# Altium footprint library TMDX654GPEVM_BRD.PcbLib: 153 footprints (part 11 of 12)
Each footprint in its own frame and in the unit in brackets; x right, y up, seen from the top. Pads: shape width x height; smd on the part's side, far side on the other; paste and mask are expansions set on the pad; w line width, h text height; cw(c..) or ccw(c..) is an arc to the next point about the centre after c.
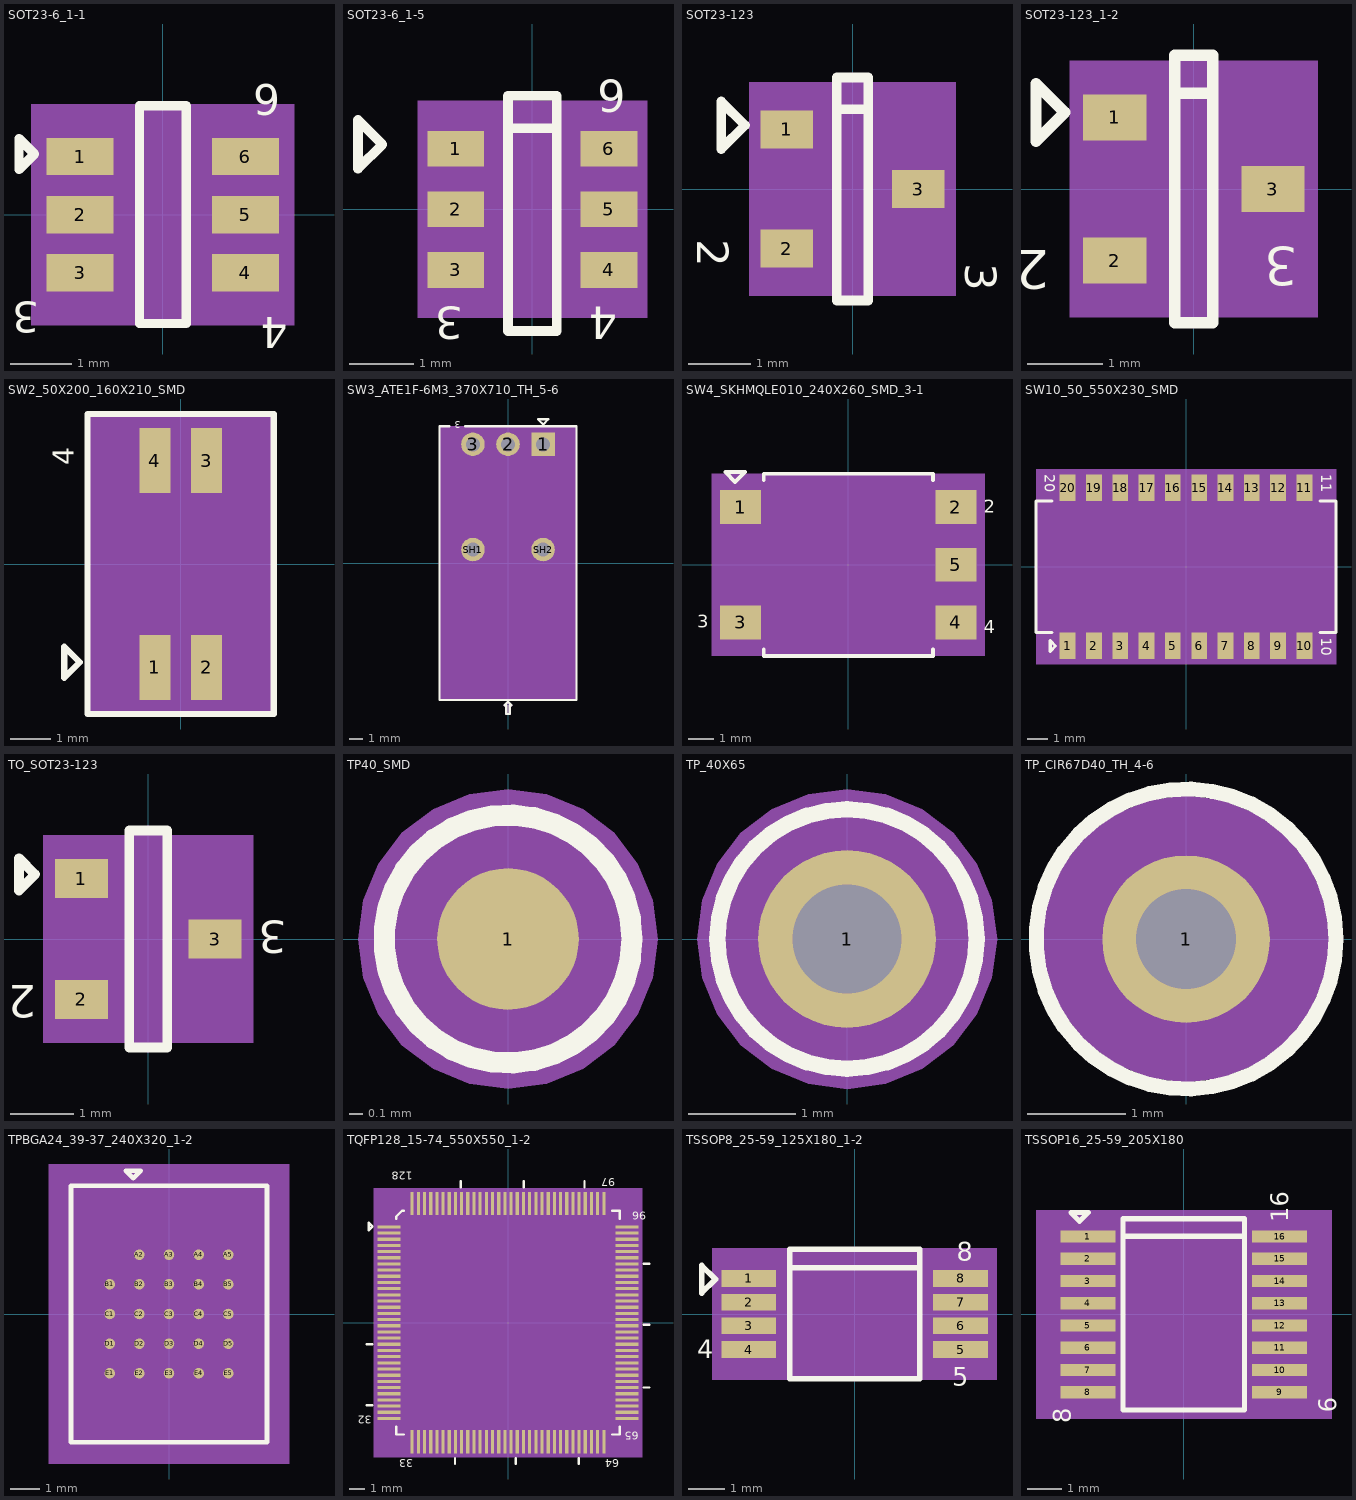
[diagram p10: the footprints below, top view; thin cyan lines are the x and y axes]

## SOT23-6_1-1 [mil] "SOT23-6_1-1"
pads (6):
  rect 43x24 smd: 1(-53.15,37.4) 2(-53.15,0) 3(-53.15,-37.4) 4(53.15,-37.4) 5(53.15,0) 6(53.15,37.4)
Top Overlay:
  lines w6: -92.5,29.05 -92.5,49.05 -82.5,39.05 -92.5,29.05 ; -15,-70 -15,70 15,70 15,-70 -15,-70
  text ".Designator" at -81.5,-15.95 h30
  text "3" at -79.5,-55.95 h20
  text "4" at 80.5,-65.95 h20
  text "6" at 75.5,84.05 h20
Top Courtyard:
  dashed: -81.65,-67 -81.65,67 81.65,67 81.65,-67
Top 3D Body:
  region: -84.5,-71 -84.5,71 84.5,71 84.5,-71
Mechanical 10:
  lines w3.94: -30,55 -27.56,57.48
  lines w6: -30,20 7.87,57.48 ; -30,25 0,57.48 ; -30,30 -3.94,57.48 ; -30,35 -5,60 ; -30,45 -19.68,57.48 ; -30,50 -23.62,57.48 ; -15,60 -30,40 -10,60 ; -45,25 -45,45 -35,35 -45,25 ; -30,-60 -30,60 30,60 30,-60 -30,-60
  text "U35" at -36.5,4.05 h30
Mechanical 11:
  lines w3.94: -30,55 -27.56,57.48
  lines w6: -30,20 7.87,57.48 ; -30,25 0,57.48 ; -30,30 -3.94,57.48 ; -30,35 -5,60 ; -30,45 -19.68,57.48 ; -30,50 -23.62,57.48 ; -15,60 -30,40 -10,60 ; -45,25 -45,45 -35,35 -45,25 ; -30,-60 -30,60 30,60 30,-60 -30,-60
  text "U35" at -36.5,4.05 h30
Mechanical 12:
  lines w3.94: -30,55 -27.56,57.48
  lines w6: -30,20 7.87,57.48 ; -30,25 0,57.48 ; -30,30 -3.94,57.48 ; -30,35 -5,60 ; -30,45 -19.68,57.48 ; -30,50 -23.62,57.48 ; -15,60 -30,40 -10,60 ; -45,25 -45,45 -35,35 -45,25 ; -30,-60 -30,60 30,60 30,-60 -30,-60
  text "U35" at -36.5,4.05 h30
Mechanical 13:
  lines w3.94: -30,55 -27.56,57.48
  lines w6: -30,20 7.87,57.48 ; -30,25 0,57.48 ; -30,30 -3.94,57.48 ; -30,35 -5,60 ; -30,45 -19.68,57.48 ; -30,50 -23.62,57.48 ; -15,60 -30,40 -10,60 ; -45,25 -45,45 -35,35 -45,25 ; -30,-60 -30,60 30,60 30,-60 -30,-60
  text "U35" at -36.5,4.05 h30
Mechanical 14:
  lines w3.94: -30,55 -27.56,57.48
  lines w6: -30,20 7.87,57.48 ; -30,25 0,57.48 ; -30,30 -3.94,57.48 ; -30,35 -5,60 ; -30,45 -19.68,57.48 ; -30,50 -23.62,57.48 ; -15,60 -30,40 -10,60 ; -45,25 -45,45 -35,35 -45,25 ; -30,-60 -30,60 30,60 30,-60 -30,-60
  text "U35" at -36.5,4.05 h30
Mechanical47:
  text "1" at -49.15,37.4 h10
  text "3" at -49.15,-37.4 h10
  text "6" at 57.15,37.4 h10
  text "4" at 57.15,-37.4 h10
  text "2" at -49.15,0 h10
  text "5" at 57.15,0 h10
Top Assembly:
  lines w3.94: -30,55 -27.56,57.48
  lines w6: -30,20 7.87,57.48 ; -30,25 0,57.48 ; -30,30 -3.94,57.48 ; -30,35 -5,60 ; -30,45 -19.68,57.48 ; -30,50 -23.62,57.48 ; -15,60 -30,40 -10,60 ; -45,25 -45,45 -35,35 -45,25 ; -30,-60 -30,60 30,60 30,-60 -30,-60
Top Component Outline:
  circle w1.97: c0,0 r13.78
  lines w0.04: -32.87,-58.86 -32.87,58.86 32.87,58.86 32.87,-58.86 -32.87,-58.86
  lines w1.97: -19.68,0 19.68,0 ; 0,-19.68 0,19.68
3D body: height 150, standoff 0, extent -84.5,-71 84.5,71

## SOT23-6_1-5 [mil] "SOT23-6_1-5"
pads (6):
  rect 35x22 smd: 1(-47.24,37.4) 2(-47.24,0) 3(-47.24,-37.4) 4(47.24,-37.4) 5(47.24,0) 6(47.24,37.4)
Top Overlay:
  lines w6: -15,50 15,50 -15,50 ; -15,50 -15,-75 15,-75 15,70 -15,70 -15,50 ; -107.52,25 -92.52,40 -107.52,55 -107.52,30 -107.52,25
  text "3" at -42.52,-60 h20
  text ".Designator" at 18.98,-90 h30
  text "4" at 52.48,-60 h20
  text "6" at 57.48,80 h20
Top Courtyard:
  dashed: -70.74,-67 -70.74,67 70.74,67 70.74,-67
Top 3D Body:
  region: -69,-65 -69,65 69,65 69,-65
Mechanical 15:
  lines w6: -35,40 -35,-60 35,-60 35,60 -35,60 -35,40 ; -35,40 35,40 -35,40 ; -52.5,25 -37.5,40 -52.5,55 -52.5,30 -52.5,25
  text "U89" at 33.98,-75 h30
Mechanical 16:
  lines w6: -35,40 -35,-60 35,-60 35,60 -35,60 -35,40 ; -35,40 35,40 -35,40 ; -52.5,25 -37.5,40 -52.5,55 -52.5,30 -52.5,25
  text "U89" at 33.98,-75 h30
Mechanical 17:
  lines w6: -35,40 -35,-60 35,-60 35,60 -35,60 -35,40 ; -35,40 35,40 -35,40 ; -52.5,25 -37.5,40 -52.5,55 -52.5,30 -52.5,25
  text "U89" at 33.98,-75 h30
Mechanical 18:
  lines w6: -35,40 -35,-60 35,-60 35,60 -35,60 -35,40 ; -35,40 35,40 -35,40 ; -52.5,25 -37.5,40 -52.5,55 -52.5,30 -52.5,25
  text "U89" at 33.98,-75 h30
Mechanical 19:
  lines w6: -35,40 -35,-60 35,-60 35,60 -35,60 -35,40 ; -35,40 35,40 -35,40 ; -52.5,25 -37.5,40 -52.5,55 -52.5,30 -52.5,25
  text "U89" at 33.98,-75 h30
Mechanical47:
  text "4" at 43.24,-37.4 h10
  text "6" at 43.24,37.4 h10
  text "2" at -51.24,0 h10
  text "1" at -51.24,37.4 h10
  text "5" at 43.24,0 h10
  text "3" at -51.24,-37.4 h10
Top Assembly:
  lines w6: -35,40 35,40 -35,40 ; -35,40 -35,60 35,60 35,-60 -35,-60 -35,40 ; -52.5,25 -37.5,40 -52.5,55 -52.5,30 -52.5,25
3D body: height 150, standoff 0, extent -69,-65 69,65

## SOT23-123 [mil] "SOT23-123"
pads (3):
  rect 33x24 smd: 1(-41.34,37.4) 2(-41.34,-37.4) 3(41.34,0)
Top Overlay:
  lines w6: -10,50 10,50 -10,50 ; -10,50 -10,-70 10,-70 10,70 -10,70 -10,50 ; -82.5,25 -82.5,55 -67.5,40 -82.5,25
  text ".Designator" at 92.37,29.8 h30
  text "2" at -97.63,-31.7 h20
  text "3" at 70.7,-46.7 h20
Top Courtyard:
  dashed: -64.84,-67 -64.84,67 64.84,67 64.84,-67
Top 3D Body:
  region: -63,-65 -63,65 63,65 63,-65
Mechanical 15:
  lines w6: -30,40 -45,55 -45,25 -30,40 ; -30,40 -30,60 30,60 30,-60 -30,-60 -30,40 ; -30,40 30,40 -30,40
  text "Q10" at 42.37,29.8 h30
Mechanical 16:
  lines w6: -30,40 -45,55 -45,25 -30,40 ; -30,40 -30,60 30,60 30,-60 -30,-60 -30,40 ; -30,40 30,40 -30,40
  text "Q10" at 42.37,29.8 h30
Mechanical 17:
  lines w6: -30,40 -45,55 -45,25 -30,40 ; -30,40 -30,60 30,60 30,-60 -30,-60 -30,40 ; -30,40 30,40 -30,40
  text "Q10" at 42.37,29.8 h30
Mechanical 18:
  lines w6: -30,40 -45,55 -45,25 -30,40 ; -30,40 -30,60 30,60 30,-60 -30,-60 -30,40 ; -30,40 30,40 -30,40
  text "Q10" at 42.37,29.8 h30
Mechanical 19:
  lines w6: -30,40 -45,55 -45,25 -30,40 ; -30,40 -30,60 30,60 30,-60 -30,-60 -30,40 ; -30,40 30,40 -30,40
  text "Q10" at 42.37,29.8 h30
Mechanical47:
  text "3" at 41.34,-4 h10
  text "1" at -41.34,33.4 h10
  text "2" at -41.34,-41.4 h10
Top Assembly:
  lines w6: -30,40 30,40 -30,40 ; -30,40 -30,-60 30,-60 30,60 -30,60 -30,40 ; -30,40 -45,55 -45,25 -30,40
3D body: height 150, standoff 0, extent -63,-65 63,65

## SOT23-123_1-2 [mil] "SOT23-123_1-2"
pads (3):
  rect 33x24 smd: 1(-41.34,37.4) 2(-41.34,-37.4) 3(41.34,0)
Top Overlay:
  lines w6: -10,50 10,50 -10,50 ; -10,50 -10,-70 10,-70 10,70 -10,70 -10,50 ; -82.5,25 -82.5,55 -67.5,40 -82.5,25
  text ".Designator" at -11.19,-96.95 h30
  text "2" at -75.69,-31.95 h20
  text "3" at 54.31,-30.28 h20
Top Courtyard:
  dashed: -64.84,-67 -64.84,67 64.84,67 64.84,-67
Top 3D Body:
  region: -63,-65 -63,65 63,65 63,-65
Mechanical 10:
  lines w6: -30,40 -45,55 -45,25 -30,40 ; -30,40 -30,60 30,60 30,-60 -30,-60 -30,40 ; -30,40 30,40 -30,40
  text "D4" at 23.81,-71.95 h30
Mechanical 11:
  lines w6: -30,40 -45,55 -45,25 -30,40 ; -30,40 -30,60 30,60 30,-60 -30,-60 -30,40 ; -30,40 30,40 -30,40
  text "D4" at 23.81,-71.95 h30
Mechanical 12:
  lines w6: -30,40 -45,55 -45,25 -30,40 ; -30,40 -30,60 30,60 30,-60 -30,-60 -30,40 ; -30,40 30,40 -30,40
  text "D4" at 23.81,-71.95 h30
Mechanical 13:
  lines w6: -30,40 -45,55 -45,25 -30,40 ; -30,40 -30,60 30,60 30,-60 -30,-60 -30,40 ; -30,40 30,40 -30,40
  text "D4" at 23.81,-71.95 h30
Mechanical 14:
  lines w6: -30,40 -45,55 -45,25 -30,40 ; -30,40 -30,60 30,60 30,-60 -30,-60 -30,40 ; -30,40 30,40 -30,40
  text "D4" at 23.81,-71.95 h30
Mechanical47:
  text "3" at 45.34,0 h10
  text "1" at -37.34,37.4 h10
  text "2" at -37.34,-37.4 h10
Top Assembly:
  lines w6: -30,40 30,40 -30,40 ; -30,40 -30,-60 30,-60 30,60 -30,60 -30,40 ; -30,40 -45,55 -45,25 -30,40
3D body: height 150, standoff 0, extent -63,-65 63,65

## SW2_50X200_160X210_SMD [mil] "SW2_50X200_160X210_SMD"
pads (4):
  rect 30x63 smd: 1(-25,-100) 2(25,-100) 3(25,100) 4(-25,100)
Top Overlay:
  lines w6: -112.5,-110 -112.5,-80 -97.5,-95 -112.5,-110 ; -90,-145 90,-145 90,145 -90,145 -90,-145
  text "4" at -103.48,95.5 h20
  text ".Designator" at -103.48,-11 h30
Top Courtyard:
  dashed: -87,-138.5 -87,138.5 87,138.5 87,-138.5
Top 3D Body:
  region: 90,-145 90,145 -90,145 -90,-145
Mechanical 10:
  lines w6: -45,-50 -45,50 ; -45,-50 -45,-45 -40,-20 ; -45,-50 -5,-50 ; -45,50 -40,25 ; -45,50 -5,50 ; -40,-105 -80,-105 -80,105 -25,105 ; -40,-105 -25,-90 ; -40,-105 -25,-90 ; -40,-105 -25,-105 ; -40,-20 -40,25 ; -40,-20 -25,-20 ; -40,-20 -25,-20 ; -40,25 -25,25 ; -40,25 -25,25 ; -25,-105 -35,-105 -35,-115 -15,-115 -15,-105 -10,-105 ; -25,-105 -10,-105 ; -25,-105 25,-105 ; -25,-90 -10,-105 ; -25,-90 -10,-105 ; -25,-20 -10,-20 ; -25,-20 -10,-20 ; -25,25 -10,25 ; -25,25 -10,25 ; -25,105 25,105 ; -25,105 -15,105 -15,115 -35,115 -35,105 -25,105 ; -10,-20 -5,-50 ; -10,-20 -10,25 ; -10,25 -5,45 -5,50 ; -5,-50 -5,50 ; -5,-50 -5,50 ; 5,-50 5,50 ; 5,-50 5,-45 10,-20 ; 5,-50 45,-50 ; 5,50 10,25 ; 5,50 45,50 ; 10,-20 10,25 ; 10,-20 25,-20 ; 10,-20 25,-20 ; 10,25 25,25 ; 10,25 25,25 ; 25,-105 15,-105 15,-115 35,-115 35,-105 25,-105 ; 25,-105 80,-105 80,105 25,105 ; 25,-20 40,-20 ; 25,-20 40,-20 ; 25,25 40,25 ; 25,25 40,25 ; 25,105 35,105 35,115 15,115 15,105 25,105 ; 40,-20 45,-50 ; 40,-20 40,25 ; 40,25 45,45 45,50 ; 45,-50 45,50 ; 45,-50 45,50
  text "SW4" at 126.52,-36 h30
Mechanical 11:
  lines w6: -45,-50 -45,50 ; -45,-50 -45,-45 -40,-20 ; -45,-50 -5,-50 ; -45,50 -40,25 ; -45,50 -5,50 ; -40,-105 -80,-105 -80,105 -25,105 ; -40,-105 -25,-90 ; -40,-105 -25,-90 ; -40,-105 -25,-105 ; -40,-20 -40,25 ; -40,-20 -25,-20 ; -40,-20 -25,-20 ; -40,25 -25,25 ; -40,25 -25,25 ; -25,-105 -35,-105 -35,-115 -15,-115 -15,-105 -10,-105 ; -25,-105 -10,-105 ; -25,-105 25,-105 ; -25,-90 -10,-105 ; -25,-90 -10,-105 ; -25,-20 -10,-20 ; -25,-20 -10,-20 ; -25,25 -10,25 ; -25,25 -10,25 ; -25,105 25,105 ; -25,105 -15,105 -15,115 -35,115 -35,105 -25,105 ; -10,-20 -5,-50 ; -10,-20 -10,25 ; -10,25 -5,45 -5,50 ; -5,-50 -5,50 ; -5,-50 -5,50 ; 5,-50 5,50 ; 5,-50 5,-45 10,-20 ; 5,-50 45,-50 ; 5,50 10,25 ; 5,50 45,50 ; 10,-20 10,25 ; 10,-20 25,-20 ; 10,-20 25,-20 ; 10,25 25,25 ; 10,25 25,25 ; 25,-105 15,-105 15,-115 35,-115 35,-105 25,-105 ; 25,-105 80,-105 80,105 25,105 ; 25,-20 40,-20 ; 25,-20 40,-20 ; 25,25 40,25 ; 25,25 40,25 ; 25,105 35,105 35,115 15,115 15,105 25,105 ; 40,-20 45,-50 ; 40,-20 40,25 ; 40,25 45,45 45,50 ; 45,-50 45,50 ; 45,-50 45,50
  text "SW4" at 126.52,-36 h30
Mechanical 12:
  lines w6: -45,-50 -45,50 ; -45,-50 -45,-45 -40,-20 ; -45,-50 -5,-50 ; -45,50 -40,25 ; -45,50 -5,50 ; -40,-105 -80,-105 -80,105 -25,105 ; -40,-105 -25,-90 ; -40,-105 -25,-90 ; -40,-105 -25,-105 ; -40,-20 -40,25 ; -40,-20 -25,-20 ; -40,-20 -25,-20 ; -40,25 -25,25 ; -40,25 -25,25 ; -25,-105 -35,-105 -35,-115 -15,-115 -15,-105 -10,-105 ; -25,-105 -10,-105 ; -25,-105 25,-105 ; -25,-90 -10,-105 ; -25,-90 -10,-105 ; -25,-20 -10,-20 ; -25,-20 -10,-20 ; -25,25 -10,25 ; -25,25 -10,25 ; -25,105 25,105 ; -25,105 -15,105 -15,115 -35,115 -35,105 -25,105 ; -10,-20 -5,-50 ; -10,-20 -10,25 ; -10,25 -5,45 -5,50 ; -5,-50 -5,50 ; -5,-50 -5,50 ; 5,-50 5,50 ; 5,-50 5,-45 10,-20 ; 5,-50 45,-50 ; 5,50 10,25 ; 5,50 45,50 ; 10,-20 10,25 ; 10,-20 25,-20 ; 10,-20 25,-20 ; 10,25 25,25 ; 10,25 25,25 ; 25,-105 15,-105 15,-115 35,-115 35,-105 25,-105 ; 25,-105 80,-105 80,105 25,105 ; 25,-20 40,-20 ; 25,-20 40,-20 ; 25,25 40,25 ; 25,25 40,25 ; 25,105 35,105 35,115 15,115 15,105 25,105 ; 40,-20 45,-50 ; 40,-20 40,25 ; 40,25 45,45 45,50 ; 45,-50 45,50 ; 45,-50 45,50
  text "SW4" at 126.52,-36 h30
Mechanical 13:
  lines w6: -45,-50 -45,50 ; -45,-50 -45,-45 -40,-20 ; -45,-50 -5,-50 ; -45,50 -40,25 ; -45,50 -5,50 ; -40,-105 -80,-105 -80,105 -25,105 ; -40,-105 -25,-90 ; -40,-105 -25,-90 ; -40,-105 -25,-105 ; -40,-20 -40,25 ; -40,-20 -25,-20 ; -40,-20 -25,-20 ; -40,25 -25,25 ; -40,25 -25,25 ; -25,-105 -35,-105 -35,-115 -15,-115 -15,-105 -10,-105 ; -25,-105 -10,-105 ; -25,-105 25,-105 ; -25,-90 -10,-105 ; -25,-90 -10,-105 ; -25,-20 -10,-20 ; -25,-20 -10,-20 ; -25,25 -10,25 ; -25,25 -10,25 ; -25,105 25,105 ; -25,105 -15,105 -15,115 -35,115 -35,105 -25,105 ; -10,-20 -5,-50 ; -10,-20 -10,25 ; -10,25 -5,45 -5,50 ; -5,-50 -5,50 ; -5,-50 -5,50 ; 5,-50 5,50 ; 5,-50 5,-45 10,-20 ; 5,-50 45,-50 ; 5,50 10,25 ; 5,50 45,50 ; 10,-20 10,25 ; 10,-20 25,-20 ; 10,-20 25,-20 ; 10,25 25,25 ; 10,25 25,25 ; 25,-105 15,-105 15,-115 35,-115 35,-105 25,-105 ; 25,-105 80,-105 80,105 25,105 ; 25,-20 40,-20 ; 25,-20 40,-20 ; 25,25 40,25 ; 25,25 40,25 ; 25,105 35,105 35,115 15,115 15,105 25,105 ; 40,-20 45,-50 ; 40,-20 40,25 ; 40,25 45,45 45,50 ; 45,-50 45,50 ; 45,-50 45,50
  text "SW4" at 126.52,-36 h30
Mechanical 14:
  lines w6: -45,-50 -45,50 ; -45,-50 -45,-45 -40,-20 ; -45,-50 -5,-50 ; -45,50 -40,25 ; -45,50 -5,50 ; -40,-105 -80,-105 -80,105 -25,105 ; -40,-105 -25,-90 ; -40,-105 -25,-90 ; -40,-105 -25,-105 ; -40,-20 -40,25 ; -40,-20 -25,-20 ; -40,-20 -25,-20 ; -40,25 -25,25 ; -40,25 -25,25 ; -25,-105 -35,-105 -35,-115 -15,-115 -15,-105 -10,-105 ; -25,-105 -10,-105 ; -25,-105 25,-105 ; -25,-90 -10,-105 ; -25,-90 -10,-105 ; -25,-20 -10,-20 ; -25,-20 -10,-20 ; -25,25 -10,25 ; -25,25 -10,25 ; -25,105 25,105 ; -25,105 -15,105 -15,115 -35,115 -35,105 -25,105 ; -10,-20 -5,-50 ; -10,-20 -10,25 ; -10,25 -5,45 -5,50 ; -5,-50 -5,50 ; -5,-50 -5,50 ; 5,-50 5,50 ; 5,-50 5,-45 10,-20 ; 5,-50 45,-50 ; 5,50 10,25 ; 5,50 45,50 ; 10,-20 10,25 ; 10,-20 25,-20 ; 10,-20 25,-20 ; 10,25 25,25 ; 10,25 25,25 ; 25,-105 15,-105 15,-115 35,-115 35,-105 25,-105 ; 25,-105 80,-105 80,105 25,105 ; 25,-20 40,-20 ; 25,-20 40,-20 ; 25,25 40,25 ; 25,25 40,25 ; 25,105 35,105 35,115 15,115 15,105 25,105 ; 40,-20 45,-50 ; 40,-20 40,25 ; 40,25 45,45 45,50 ; 45,-50 45,50 ; 45,-50 45,50
  text "SW4" at 126.52,-36 h30
Mechanical47:
  text "2" at 25,-104 h10
  text "4" at -25,96 h10
  text "3" at 25,96 h10
  text "1" at -25,-104 h10
Top Assembly:
  lines w6: -45,-50 -45,-45 -40,-20 ; -45,-50 -5,-50 ; -45,-50 -45,50 ; -45,50 -5,50 ; -45,50 -40,25 ; -40,-105 -25,-90 ; -40,-105 -25,-105 ; -40,-105 -80,-105 -80,105 -25,105 ; -40,-105 -25,-90 ; -40,-20 -25,-20 ; -40,-20 -40,25 ; -40,-20 -25,-20 ; -40,25 -25,25 ; -40,25 -25,25 ; -25,-105 -10,-105 ; -25,-105 25,-105 ; -25,-105 -35,-105 -35,-115 -15,-115 -15,-105 -10,-105 ; -25,-90 -10,-105 ; -25,-90 -10,-105 ; -25,-20 -10,-20 ; -25,-20 -10,-20 ; -25,25 -10,25 ; -25,25 -10,25 ; -25,105 -15,105 -15,115 -35,115 -35,105 -25,105 ; -25,105 25,105 ; -10,-20 -10,25 ; -10,-20 -5,-50 ; -10,25 -5,45 -5,50 ; -5,-50 -5,50 ; -5,-50 -5,50 ; 5,-50 5,-45 10,-20 ; 5,-50 45,-50 ; 5,-50 5,50 ; 5,50 45,50 ; 5,50 10,25 ; 10,-20 25,-20 ; 10,-20 10,25 ; 10,-20 25,-20 ; 10,25 25,25 ; 10,25 25,25 ; 25,-105 15,-105 15,-115 35,-115 35,-105 25,-105 ; 25,-105 80,-105 80,105 25,105 ; 25,-20 40,-20 ; 25,-20 40,-20 ; 25,25 40,25 ; 25,25 40,25 ; 25,105 35,105 35,115 15,115 15,105 25,105 ; 40,-20 40,25 ; 40,-20 45,-50 ; 40,25 45,45 45,50 ; 45,-50 45,50 ; 45,-50 45,50
3D body: height 150, standoff 0, extent -90,-145 90,145

## SW3_ATE1F-6M3_370X710_TH_5-6 [mil] "SW3_ATE1F-6M3_370X710_TH_5-6"
pads (5):
  rect 67x67 / inner round 67 / far side rect 67x67 hole 40: 1(100,338.66)
  round 67 hole 40: 2(0,338.66) 3(-100,338.66) SH1(-100,38.66) SH2(100,38.66)
Top Overlay:
  lines w6: -167.5,390 -195,390 -195,-390 195,-390 195,390 -122.5,390 ; -10,-405 0,-395 10,-405 5,-405 5,-430 -5,-430 -5,-405 -10,-405 ; 85,410 115,410 100,395 85,410
  text ".Designator" at 222.5,134 h30
  text "3" at -135,405 h20
Top Courtyard:
  dashed: -192,-387 192,-387 192,379.16 -192,379.16
Top 3D Body:
  region: -195,-390 195,-390 195,390 -195,390
Mechanical 10:
  lines w6: 30,-140 -60,-140 cw(c-60,-120) -80,-120 -80,20 80,20 ; 30,-140 -30,-140 -50,-330 ccw(c0,-330) 0,-380 ccw(c0,-330) 50,-330 30,-140 ; 30,-140 60,-140 ccw(c60,-120) 80,-120 80,20 ; 80,20 -185,20 -185,330 -135,330 -135,300 140,300 140,330 185,330 185,20 80,20 ; -10,-405 0,-395 10,-405 5,-405 5,-430 -5,-430 -5,-405 -10,-405 ; 85,320 100,305 115,320 85,320
  text "SW1" at 36.5,190 h30
Mechanical 11:
  lines w6: 30,-140 -60,-140 cw(c-60,-120) -80,-120 -80,20 80,20 ; 30,-140 -30,-140 -50,-330 ccw(c0,-330) 0,-380 ccw(c0,-330) 50,-330 30,-140 ; 30,-140 60,-140 ccw(c60,-120) 80,-120 80,20 ; 80,20 -185,20 -185,330 -135,330 -135,300 140,300 140,330 185,330 185,20 80,20 ; -10,-405 0,-395 10,-405 5,-405 5,-430 -5,-430 -5,-405 -10,-405 ; 85,320 100,305 115,320 85,320
  text "SW1" at 36.5,190 h30
Mechanical 12:
  lines w6: 30,-140 -60,-140 cw(c-60,-120) -80,-120 -80,20 80,20 ; 30,-140 -30,-140 -50,-330 ccw(c0,-330) 0,-380 ccw(c0,-330) 50,-330 30,-140 ; 30,-140 60,-140 ccw(c60,-120) 80,-120 80,20 ; 80,20 -185,20 -185,330 -135,330 -135,300 140,300 140,330 185,330 185,20 80,20 ; -10,-405 0,-395 10,-405 5,-405 5,-430 -5,-430 -5,-405 -10,-405 ; 85,320 100,305 115,320 85,320
  text "SW1" at 36.5,190 h30
Mechanical 13:
  lines w6: 30,-140 -60,-140 cw(c-60,-120) -80,-120 -80,20 80,20 ; 30,-140 -30,-140 -50,-330 ccw(c0,-330) 0,-380 ccw(c0,-330) 50,-330 30,-140 ; 30,-140 60,-140 ccw(c60,-120) 80,-120 80,20 ; 80,20 -185,20 -185,330 -135,330 -135,300 140,300 140,330 185,330 185,20 80,20 ; -10,-405 0,-395 10,-405 5,-405 5,-430 -5,-430 -5,-405 -10,-405 ; 85,320 100,305 115,320 85,320
  text "SW1" at 36.5,190 h30
Mechanical 14:
  lines w6: 30,-140 -60,-140 cw(c-60,-120) -80,-120 -80,20 80,20 ; 30,-140 -30,-140 -50,-330 ccw(c0,-330) 0,-380 ccw(c0,-330) 50,-330 30,-140 ; 30,-140 60,-140 ccw(c60,-120) 80,-120 80,20 ; 80,20 -185,20 -185,330 -135,330 -135,300 140,300 140,330 185,330 185,20 80,20 ; -10,-405 0,-395 10,-405 5,-405 5,-430 -5,-430 -5,-405 -10,-405 ; 85,320 100,305 115,320 85,320
  text "SW1" at 36.5,190 h30
Mechanical47:
  text "3" at -96,338.66 h10
  text "2" at 4,338.66 h10
  text "1" at 104,338.66 h10
  text "SH2" at 112,38.66 h10
  text "SH1" at -88,38.66 h10
Top Assembly:
  lines w6: 30,-140 -30,-140 -50,-330 ccw(c0,-330) 0,-380 ccw(c0,-330) 50,-330 30,-140 ; 30,-140 60,-140 ccw(c60,-120) 80,-120 80,20 ; 30,-140 -60,-140 cw(c-60,-120) -80,-120 -80,20 80,20 ; 80,20 185,20 185,330 140,330 140,300 -135,300 -135,330 -185,330 -185,20 80,20 ; -10,-405 0,-395 10,-405 5,-405 5,-430 -5,-430 -5,-405 -10,-405 ; 85,320 100,305 115,320 85,320
3D body: height 150, standoff 0, extent -195,-390 195,390

## SW4_SKHMQLE010_240X260_SMD_3-1 [mil] "SW4_SKHMQLE010_240X260_SMD_3-1"
pads (5):
  rect 63x52 smd: 1(-165.35,88.58) 2(165.35,88.58) 3(-165.35,-88.58) 4(165.35,-88.58) 5(165.35,0)
Top Overlay:
  lines w6: -130,-130 -130,-140 130,-140 130,-130 ; -130,130 -130,140 130,140 130,130 ; -189,142.5 -159,142.5 -174,127.5 -189,142.5
  text ".Designator" at -8,-190 h30
  text "3" at -232.5,-96.67 h20
  text "4" at 208.5,-105 h20
  text "2" at 208.5,80 h20
Top Courtyard:
  dashed: -203.85,-137 -203.85,137 203.85,137 203.85,-137
Top 3D Body:
  region: -210,140 -210,-140 210,-140 210,140
Mechanical 10:
  circle w6: c0,0 r60
  lines w6: -140,75 -140,105 -125,90 -140,75 ; -120,-130 120,-130 120,130 -120,130 -120,-130
  text "SW8" at -34,-10 h30
Mechanical 11:
  circle w6: c0,0 r60
  lines w6: -140,75 -140,105 -125,90 -140,75 ; -120,-130 120,-130 120,130 -120,130 -120,-130
  text "SW8" at -34,-10 h30
Mechanical 12:
  circle w6: c0,0 r60
  lines w6: -140,75 -140,105 -125,90 -140,75 ; -120,-130 120,-130 120,130 -120,130 -120,-130
  text "SW8" at -34,-10 h30
Mechanical 13:
  circle w6: c0,0 r60
  lines w6: -140,75 -140,105 -125,90 -140,75 ; -120,-130 120,-130 120,130 -120,130 -120,-130
  text "SW8" at -34,-10 h30
Mechanical 14:
  circle w6: c0,0 r60
  lines w6: -140,75 -140,105 -125,90 -140,75 ; -120,-130 120,-130 120,130 -120,130 -120,-130
  text "SW8" at -34,-10 h30
Mechanical47:
  text "3" at -169.35,-88.58 h10
  text "5" at 161.35,0 h10
  text "4" at 161.35,-88.58 h10
  text "1" at -169.35,88.58 h10
  text "2" at 161.35,88.58 h10
Top Assembly:
  circle w6: c0,0 r60
  lines w6: -140,75 -140,105 -125,90 -140,75 ; -120,-130 120,-130 120,130 -120,130 -120,-130
3D body: height 150, standoff 0, extent -210,-140 210,140

## SW10_50_550X230_SMD [mil] "SW10_50_550X230_SMD"
pads (20):
  rect 30x50 smd: 1(-225,-150) 2(-175,-150) 3(-125,-150) 4(-75,-150) 5(-25,-150) 6(25,-150) 7(75,-150) 8(125,-150) 9(175,-150) 10(225,-150) 11(225,150) 12(175,150) 13(125,150) 14(75,150) 15(25,150) 16(-25,150) 17(-75,150) 18(-125,150) 19(-175,150) 20(-225,150)
Top Overlay:
  lines w6: -255,-125 -285,-125 -285,125 -255,125 ; 255,-125 285,-125 285,125 255,125 ; -258.04,-160.4 -258.04,-140.4 -248.04,-150.4 -258.04,-160.4
  text ".Designator" at 296.96,43.6 h30
  text "11" at 256.96,175.6 h20
  text "20" at -268.04,175.6 h20
  text "10" at 256.96,-134.4 h20
Top Courtyard:
  dashed: -282,-182 -282,182 282,182 282,-182
Top 3D Body:
  region: -285,185 -285,-185 285,-185 285,185
Mechanical 10:
  lines w6: -275,-115 275,-115 275,115 -275,115 -275,-115 ; -238.04,-130.4 -228.04,-120.4 -218.04,-130.4 -238.04,-130.4
  text "SW2" at -38.04,38.6 h30
Mechanical 11:
  lines w6: -275,-115 275,-115 275,115 -275,115 -275,-115 ; -238.04,-130.4 -228.04,-120.4 -218.04,-130.4 -238.04,-130.4
  text "SW2" at -38.04,38.6 h30
Mechanical 12:
  lines w6: -275,-115 275,-115 275,115 -275,115 -275,-115 ; -238.04,-130.4 -228.04,-120.4 -218.04,-130.4 -238.04,-130.4
  text "SW2" at -38.04,38.6 h30
Mechanical 13:
  lines w6: -275,-115 275,-115 275,115 -275,115 -275,-115 ; -238.04,-130.4 -228.04,-120.4 -218.04,-130.4 -238.04,-130.4
  text "SW2" at -38.04,38.6 h30
Mechanical 14:
  lines w6: -275,-115 275,-115 275,115 -275,115 -275,-115 ; -238.04,-130.4 -228.04,-120.4 -218.04,-130.4 -238.04,-130.4
  text "SW2" at -38.04,38.6 h30
Mechanical47:
  text "9" at 175,-146 h10
  text "7" at 75,-146 h10
  text "8" at 125,-146 h10
  text "6" at 25,-146 h10
  text "5" at -25,-146 h10
  text "4" at -75,-146 h10
  text "3" at -125,-146 h10
  text "1" at -225,-146 h10
  text "2" at -175,-146 h10
  text "13" at 125,158 h10
  text "19" at -175,158 h10
  text "12" at 175,158 h10
  text "17" at -75,158 h10
  text "20" at -225,158 h10
  text "15" at 25,158 h10
  text "14" at 75,158 h10
  text "16" at -25,158 h10
  text "18" at -125,158 h10
  text "11" at 225,158 h10
  text "10" at 225,-142 h10
Top Assembly:
  lines w6: -275,-115 275,-115 275,115 -275,115 -275,-115 ; -238.04,-130.4 -228.04,-120.4 -218.04,-130.4 -238.04,-130.4
3D body: height 150, standoff 0, extent -285,-185 285,185

## TO_SOT23-123 [mil] "TO_SOT23-123"
pads (3):
  rect 33x24 smd: 1(-41.34,37.4) 2(-41.34,-37.4) 3(41.34,0)
Top Overlay:
  lines w6: -80,30 -80,50 -70,40 -80,30 ; -11.81,-67.09 -11.81,67.09 11.81,67.09 11.81,-67.09 -11.81,-67.09
  text ".Designator" at 26.65,116.41 h30
  text "2" at -69.35,-28.59 h20
  text "3" at 85.65,11.41 h20
Top Courtyard:
  dashed: -64.84,-64.09 -64.84,64.09 64.84,64.09 64.84,-64.09
Top 3D Body:
  region: -63,-63 -63,63 63,63 63,-63
Mechanical 10:
  lines w3.94: -25.59,53.15 -21.65,57.09
  lines w6: -25.59,17.72 13.78,57.09 ; -25.59,21.65 9.84,57.09 ; -25.59,25.59 5.91,57.09 ; -25.59,29.53 1.97,57.09 ; -25.59,33.47 -1.97,57.09 ; -25.59,37.4 -5.91,57.09 ; -25.59,41.34 -9.84,57.09 ; -25.59,45.28 -13.78,57.09 ; -25.59,49.21 -17.72,57.09 ; -40,30 -40,50 -30,40 -40,30 ; -25.59,-57.09 -25.59,57.09 25.59,57.09 25.59,-57.09 -25.59,-57.09
  text "Q7" at -37.35,14.41 h30
Mechanical 11:
  lines w3.94: -25.59,53.15 -21.65,57.09
  lines w6: -25.59,17.72 13.78,57.09 ; -25.59,21.65 9.84,57.09 ; -25.59,25.59 5.91,57.09 ; -25.59,29.53 1.97,57.09 ; -25.59,33.47 -1.97,57.09 ; -25.59,37.4 -5.91,57.09 ; -25.59,41.34 -9.84,57.09 ; -25.59,45.28 -13.78,57.09 ; -25.59,49.21 -17.72,57.09 ; -40,30 -40,50 -30,40 -40,30 ; -25.59,-57.09 -25.59,57.09 25.59,57.09 25.59,-57.09 -25.59,-57.09
  text "Q7" at -37.35,14.41 h30
Mechanical 12:
  lines w3.94: -25.59,53.15 -21.65,57.09
  lines w6: -25.59,17.72 13.78,57.09 ; -25.59,21.65 9.84,57.09 ; -25.59,25.59 5.91,57.09 ; -25.59,29.53 1.97,57.09 ; -25.59,33.47 -1.97,57.09 ; -25.59,37.4 -5.91,57.09 ; -25.59,41.34 -9.84,57.09 ; -25.59,45.28 -13.78,57.09 ; -25.59,49.21 -17.72,57.09 ; -40,30 -40,50 -30,40 -40,30 ; -25.59,-57.09 -25.59,57.09 25.59,57.09 25.59,-57.09 -25.59,-57.09
  text "Q7" at -37.35,14.41 h30
Mechanical 13:
  lines w3.94: -25.59,53.15 -21.65,57.09
  lines w6: -25.59,17.72 13.78,57.09 ; -25.59,21.65 9.84,57.09 ; -25.59,25.59 5.91,57.09 ; -25.59,29.53 1.97,57.09 ; -25.59,33.47 -1.97,57.09 ; -25.59,37.4 -5.91,57.09 ; -25.59,41.34 -9.84,57.09 ; -25.59,45.28 -13.78,57.09 ; -25.59,49.21 -17.72,57.09 ; -40,30 -40,50 -30,40 -40,30 ; -25.59,-57.09 -25.59,57.09 25.59,57.09 25.59,-57.09 -25.59,-57.09
  text "Q7" at -37.35,14.41 h30
Mechanical 14:
  lines w3.94: -25.59,53.15 -21.65,57.09
  lines w6: -25.59,17.72 13.78,57.09 ; -25.59,21.65 9.84,57.09 ; -25.59,25.59 5.91,57.09 ; -25.59,29.53 1.97,57.09 ; -25.59,33.47 -1.97,57.09 ; -25.59,37.4 -5.91,57.09 ; -25.59,41.34 -9.84,57.09 ; -25.59,45.28 -13.78,57.09 ; -25.59,49.21 -17.72,57.09 ; -40,30 -40,50 -30,40 -40,30 ; -25.59,-57.09 -25.59,57.09 25.59,57.09 25.59,-57.09 -25.59,-57.09
  text "Q7" at -37.35,14.41 h30
Mechanical47:
  text "1" at -37.34,37.4 h10
  text "3" at 45.34,0 h10
  text "2" at -37.34,-37.4 h10
Top Assembly:
  lines w3.94: -25.59,53.15 -21.65,57.09
  lines w6: -25.59,17.72 13.78,57.09 ; -25.59,21.65 9.84,57.09 ; -25.59,25.59 5.91,57.09 ; -25.59,29.53 1.97,57.09 ; -25.59,33.47 -1.97,57.09 ; -25.59,37.4 -5.91,57.09 ; -25.59,41.34 -9.84,57.09 ; -25.59,45.28 -13.78,57.09 ; -25.59,49.21 -17.72,57.09 ; -40,30 -40,50 -30,40 -40,30 ; -25.59,-57.09 -25.59,57.09 25.59,57.09 25.59,-57.09 -25.59,-57.09
Top Component Outline:
  circle w1.97: c0,0 r13.78
  lines w0.04: -27.56,-59.05 -27.56,59.05 27.56,59.05 27.56,-59.05 -27.56,-59.05
  lines w1.97: -19.68,0 19.68,0 ; 0,-19.68 0,19.68
3D body: height 150, standoff 0, extent -63,-63 63,63

## TP40_SMD [mil] "TP40_SMD"
pads (1):
  round 40 smd: 1(0,0)
Top Overlay:
  circle w6: c0,0 r35
  text ".Designator" at -50,-51 h30
Top Courtyard:
  dashed: 0,-42.36 -10.96,-40.92 -21.18,-36.69 -29.95,-29.95 -36.69,-21.18 -40.92,-10.96 -42.36,0 -40.92,10.96 -36.69,21.18 -29.95,29.95 -21.18,36.69 -10.96,40.92 0,42.36 10.96,40.92 21.18,36.69 29.95,29.95 36.69,21.18 40.92,10.96 42.36,0 40.92,-10.96 36.69,-21.18 29.95,-29.95 21.18,-36.69 10.96,-40.92
Top 3D Body:
  region: 0,-35.3 -9.14,-34.1 -17.65,-30.57 -24.96,-24.96 -30.57,-17.65 -34.1,-9.14 -35.3,0 -34.1,9.14 -30.57,17.65 -24.96,24.96 -17.65,30.57 -9.14,34.1 0,35.3 9.14,34.1 17.65,30.57 24.96,24.96 30.57,17.65 34.1,9.14 35.3,0 34.1,-9.14 30.57,-17.65 24.96,-24.96 17.65,-30.57 9.14,-34.1
Mechanical47:
  text "1" at 0.59,0.67 h10
Top Assembly:
  circle w6: c0,0 r35
3D body: height 150, standoff 0, extent -35.3,-35.3 35.3,35.3

## TP_40X65 [mil] "TP_40X65"
pads (1):
  round 65 hole 40: 1(0,0)
Top Overlay:
  circle w6: c0,0 r47.43
  text ".Designator" at -36,38 h30
Top Courtyard:
  dashed: 0,-54.9 -14.21,-53.03 -27.45,-47.55 -38.82,-38.82 -47.55,-27.45 -53.03,-14.21 -54.9,0 -53.03,14.21 -47.55,27.45 -38.82,38.82 -27.45,47.55 -14.21,53.03 0,54.9 14.21,53.03 27.45,47.55 38.82,38.82 47.55,27.45 53.03,14.21 54.9,0 53.03,-14.21 47.55,-27.45 38.82,-38.82 27.45,-47.55 14.21,-53.03
Top 3D Body:
  region: 0,-47.84 -12.38,-46.21 -23.92,-41.43 -33.83,-33.83 -41.43,-23.92 -46.21,-12.38 -47.84,0 -46.21,12.38 -41.43,23.92 -33.83,33.83 -23.92,41.43 -12.38,46.21 0,47.84 12.38,46.21 23.92,41.43 33.83,33.83 41.43,23.92 46.21,12.38 47.84,0 46.21,-12.38 41.43,-23.92 33.83,-33.83 23.92,-41.43 12.38,-46.21
Mechanical47:
  text "1" at 0.59,0.67 h10
Top Assembly:
  circle w6: c0,0 r47.43
3D body: height 150, standoff 0, extent -47.84,-47.84 47.84,47.84

## TP_CIR67D40_TH_4-6 [mil] "TP_CIR67D40_TH_4-6"
pads (1):
  round 67 hole 40: 1(0,0)
Top Overlay:
  circle w6: c0,0 r60
  text ".Designator" at -9,-110 h30
Top Courtyard:
  dashed: 57.49,0 55.53,14.88 49.79,28.75 40.65,40.65 28.75,49.79 14.88,55.53 0,57.49 -14.88,55.53 -28.75,49.79 -40.65,40.65 -49.79,28.75 -55.53,14.88 -57.49,0 -55.53,-14.88 -49.79,-28.75 -40.65,-40.65 -28.75,-49.79 -14.88,-55.53 0,-57.49 14.88,-55.53 28.75,-49.79 40.65,-40.65 49.79,-28.75 55.53,-14.88
Top 3D Body:
  region: 50.43,0 48.71,13.05 43.67,25.22 35.66,35.66 25.22,43.67 13.05,48.71 0,50.43 -13.05,48.71 -25.22,43.67 -35.66,35.66 -43.67,25.22 -48.71,13.05 -50.43,0 -48.71,-13.05 -43.67,-25.22 -35.66,-35.66 -25.22,-43.67 -13.05,-48.71 0,-50.43 13.05,-48.71 25.22,-43.67 35.66,-35.66 43.67,-25.22 48.71,-13.05
Mechanical 10:
  circle w6: c0,0 r50
  text "TP6" at -34,-10 h30
Mechanical 11:
  circle w6: c0,0 r50
  text "TP6" at -34,-10 h30
Mechanical 12:
  circle w6: c0,0 r50
  text "TP6" at -34,-10 h30
Mechanical 13:
  circle w6: c0,0 r50
  text "TP6" at -34,-10 h30
Mechanical 14:
  circle w6: c0,0 r50
  text "TP6" at -34,-10 h30
Mechanical47:
  text "1" at -4,0 h10
Top Assembly:
  circle w6: c0,0 r50
3D body: height 150, standoff 0, extent -50.43,-50.43 50.43,50.43

## TPBGA24_39-37_240X320_1-2 [mil] "TPBGA24_39-37_240X320_1-2"
pads (24):
  round 14 smd: A2(-39.37,78.74) A3(0,78.74) A4(39.37,78.74) A5(78.74,78.74) B1(-78.74,39.37) B2(-39.37,39.37) B3(0,39.37) B4(39.37,39.37) B5(78.74,39.37) C1(-78.74,0) C2(-39.37,0) C3(0,0) C4(39.37,0) C5(78.74,0) D1(-78.74,-39.37) D2(-39.37,-39.37) D3(0,-39.37) D4(39.37,-39.37) D5(78.74,-39.37) E1(-78.74,-78.74) E2(-39.37,-78.74) E3(0,-78.74) E4(39.37,-78.74) E5(78.74,-78.74)
Top Overlay:
  lines w6: -130,-170 -130,170 130,170 130,-170 -130,-170 ; -57.5,190 -37.5,190 -47.5,180 -57.5,190
  text ".Designator" at 116.5,-180 h30
Top Courtyard:
  dashed: -127,-167 127,-167 127,167 -127,167
Top 3D Body:
  region: -159.5,-199 -159.5,199 159.5,199 159.5,-199
Mechanical 10:
  lines w6: -130,70 -130,90 -120,80 -130,70 ; -120,-160 120,-160 120,160 -120,160 -120,-160
  text "U24" at 33.5,20 h30
Mechanical 11:
  lines w6: -130,70 -130,90 -120,80 -130,70 ; -120,-160 120,-160 120,160 -120,160 -120,-160
  text "U24" at 33.5,20 h30
Mechanical 12:
  lines w6: -130,70 -130,90 -120,80 -130,70 ; -120,-160 120,-160 120,160 -120,160 -120,-160
  text "U24" at 33.5,20 h30
Mechanical 13:
  lines w6: -130,70 -130,90 -120,80 -130,70 ; -120,-160 120,-160 120,160 -120,160 -120,-160
  text "U24" at 33.5,20 h30
Mechanical 14:
  lines w6: -130,70 -130,90 -120,80 -130,70 ; -120,-160 120,-160 120,160 -120,160 -120,-160
  text "U24" at 33.5,20 h30
Mechanical47:
  text "B4" at 47.37,34.37 h10
  text "D4" at 47.37,-44.37 h10
  text "A4" at 47.37,73.74 h10
  text "C4" at 47.37,-5 h10
  text "C2" at -31.37,-5 h10
  text "B3" at 8,34.37 h10
  text "D3" at 8,-44.37 h10
  text "D2" at -31.37,-44.37 h10
  text "B2" at -31.37,34.37 h10
  text "D1" at -70.74,-44.37 h10
  text "C5" at 86.74,-5 h10
  text "C3" at 8,-5 h10
  text "C1" at -70.74,-5 h10
  text "B5" at 86.74,34.37 h10
  text "B1" at -70.74,34.37 h10
  text "A5" at 86.74,73.74 h10
  text "A3" at 8,73.74 h10
  text "E5" at 86.74,-83.74 h10
  text "E4" at 47.37,-83.74 h10
  text "E3" at 8,-83.74 h10
  text "E2" at -31.37,-83.74 h10
  text "E1" at -70.74,-83.74 h10
  text "D5" at 86.74,-44.37 h10
  text "A2" at -31.37,73.74 h10
Top Assembly:
  lines w6: -130,70 -130,90 -120,80 -130,70 ; -120,-160 120,-160 120,160 -120,160 -120,-160
Bottom Component Outline:
  text "A" at -137.5,68.33 h20
  text "B" at -137.5,28.33 h20
  text "C" at -137.5,-11.67 h20
  text "D" at -137.5,-51.67 h20
  text "E" at -137.5,-91.67 h20
  text "1" at -77.5,178.33 h20
  text "2" at -37.5,178.33 h20
  text "3" at 2.5,178.33 h20
  text "4" at 47.5,178.33 h20
  text "5" at 87.5,178.33 h20
3D body: height 150, standoff 0, extent -159.5,-199 159.5,199

## TQFP128_15-74_550X550_1-2 [mil] "TQFP128_15-74_550X550_1-2"
pads (128):
  rect 59x8 smd: 1(-303.15,244.09) 2(-303.15,228.35) 3(-303.15,212.6) 4(-303.15,196.85) 5(-303.15,181.1) 6(-303.15,165.35) 7(-303.15,149.61) 8(-303.15,133.86) 9(-303.15,118.11) 10(-303.15,102.36) 11(-303.15,86.61) 12(-303.15,70.87) 13(-303.15,55.12) 14(-303.15,39.37) 15(-303.15,23.62) 16(-303.15,7.87) 17(-303.15,-7.87) 18(-303.15,-23.62) 19(-303.15,-39.37) 20(-303.15,-55.12) 21(-303.15,-70.87) 22(-303.15,-86.61) 23(-303.15,-102.36) 24(-303.15,-118.11) 25(-303.15,-133.86) 26(-303.15,-149.61) 27(-303.15,-165.35) 28(-303.15,-181.1) 29(-303.15,-196.85) 30(-303.15,-212.6) 31(-303.15,-228.35) 32(-303.15,-244.09) 65(303.15,-244.09) 66(303.15,-228.35) 67(303.15,-212.6) 68(303.15,-196.85) 69(303.15,-181.1) 70(303.15,-165.35) 71(303.15,-149.61) 72(303.15,-133.86) 73(303.15,-118.11) 74(303.15,-102.36) 75(303.15,-86.61) 76(303.15,-70.87) 77(303.15,-55.12) 78(303.15,-39.37) 79(303.15,-23.62) 80(303.15,-7.87) 81(303.15,7.87) 82(303.15,23.62) 83(303.15,39.37) 84(303.15,55.12) 85(303.15,70.87) 86(303.15,86.61) 87(303.15,102.36) 88(303.15,118.11) 89(303.15,133.86) 90(303.15,149.61) 91(303.15,165.35) 92(303.15,181.1) 93(303.15,196.85) 94(303.15,212.6) 95(303.15,228.35) 96(303.15,244.09)
  rect 8x59 smd: 33(-244.09,-303.15) 34(-228.35,-303.15) 35(-212.6,-303.15) 36(-196.85,-303.15) 37(-181.1,-303.15) 38(-165.35,-303.15) 39(-149.61,-303.15) 40(-133.86,-303.15) 41(-118.11,-303.15) 42(-102.36,-303.15) 43(-86.61,-303.15) 44(-70.87,-303.15) 45(-55.12,-303.15) 46(-39.37,-303.15) 47(-23.62,-303.15) 48(-7.87,-303.15) 49(7.87,-303.15) 50(23.62,-303.15) 51(39.37,-303.15) 52(55.12,-303.15) 53(70.87,-303.15) 54(86.61,-303.15) 55(102.36,-303.15) 56(118.11,-303.15) 57(133.86,-303.15) 58(149.61,-303.15) 59(165.35,-303.15) 60(181.1,-303.15) 61(196.85,-303.15) 62(212.6,-303.15) 63(228.35,-303.15) 64(244.09,-303.15) 97(244.09,303.15) 98(228.35,303.15) 99(212.6,303.15) 100(196.85,303.15) 101(181.1,303.15) 102(165.35,303.15) 103(149.61,303.15) 104(133.86,303.15) 105(118.11,303.15) 106(102.36,303.15) 107(86.61,303.15) 108(70.87,303.15) 109(55.12,303.15) 110(39.37,303.15) 111(23.62,303.15) 112(7.87,303.15) 113(-7.87,303.15) 114(-23.62,303.15) 115(-39.37,303.15) 116(-55.12,303.15) 117(-70.87,303.15) 118(-86.61,303.15) 119(-102.36,303.15) 120(-118.11,303.15) 121(-133.86,303.15) 122(-149.61,303.15) 123(-165.35,303.15) 124(-181.1,303.15) 125(-196.85,303.15) 126(-212.6,303.15) 127(-228.35,303.15) 128(-244.09,303.15)
Top Overlay:
  lines w6: -360,-210 -345,-210 ; -360,-55 -345,-55 ; -285,-265 -285,-285 -265,-285 ; -285,265 -285,270 -270,285 -265,285 ; -135,-360 -135,-345 ; -120,345 -120,360 ; 20,-360 20,-345 ; 40,345 40,360 ; 180,-360 180,-345 ; 195,345 195,360 ; 265,-285 285,-285 285,-265 ; 265,285 285,285 285,265 ; 345,-165 360,-165 ; 345,-5 360,-5 ; 345,150 360,150 ; -355,235 -355,255 -345,245 -355,235
  text ".Designator" at -321.5,-322.5 h30
  text "32" at -346.5,-237.5 h20
  text "33" at -241.5,-347.5 h20
  text "64" at 283.5,-347.5 h20
  text "65" at 333.5,-277.5 h20
  text "96" at 316.5,262.5 h20
  text "97" at 273.5,367.5 h20
  text "128" at -243,384.17 h20
Top Courtyard:
  dashed: -338.65,-338.65 -338.65,338.65 338.65,338.65 338.65,-338.65
Top 3D Body:
  region: -342.5,-342.5 -342.5,342.5 342.5,342.5 342.5,-342.5
Mechanical 15:
  lines w6: -290,235 -290,255 -280,245 -290,235 ; -275,-275 275,-275 275,275 -275,275 -275,-275
  text "U106" at -65.5,7.5 h30
Mechanical 16:
  lines w6: -290,235 -290,255 -280,245 -290,235 ; -275,-275 275,-275 275,275 -275,275 -275,-275
  text "U106" at -65.5,7.5 h30
Mechanical 17:
  lines w6: -290,235 -290,255 -280,245 -290,235 ; -275,-275 275,-275 275,275 -275,275 -275,-275
  text "U106" at -65.5,7.5 h30
Mechanical 18:
  lines w6: -290,235 -290,255 -280,245 -290,235 ; -275,-275 275,-275 275,275 -275,275 -275,-275
  text "U106" at -65.5,7.5 h30
Mechanical 19:
  lines w6: -290,235 -290,255 -280,245 -290,235 ; -275,-275 275,-275 275,275 -275,275 -275,-275
  text "U106" at -65.5,7.5 h30
Mechanical47:
  text "97" at 241.09,303.15 h10
  text "98" at 225.35,303.15 h10
  text "99" at 209.6,303.15 h10
  text "100" at 189.85,303.15 h10
  text "115" at -46.37,303.15 h10
  text "87" at 295.15,97.36 h10
  text "60" at 178.1,-303.15 h10
  text "96" at 295.15,239.09 h10
  text "4" at -307.15,191.85 h10
  text "36" at -199.85,-303.15 h10
  text "43" at -89.61,-303.15 h10
  text "61" at 193.85,-303.15 h10
  text "42" at -105.36,-303.15 h10
  text "40" at -136.86,-303.15 h10
  text "68" at 295.15,-201.85 h10
  text "88" at 295.15,113.11 h10
  text "95" at 295.15,223.35 h10
  text "35" at -215.6,-303.15 h10
  text "63" at 225.35,-303.15 h10
  text "114" at -30.62,303.15 h10
  text "10" at -311.15,97.36 h10
  text "17" at -311.15,-12.87 h10
  text "64" at 241.09,-303.15 h10
  text "58" at 146.61,-303.15 h10
  text "55" at 99.36,-303.15 h10
  text "66" at 295.15,-233.35 h10
  text "80" at 295.15,-12.87 h10
  text "48" at -10.87,-303.15 h10
  text "38" at -168.35,-303.15 h10
  text "94" at 295.15,207.6 h10
  text "59" at 162.35,-303.15 h10
  text "89" at 295.15,128.86 h10
  text "1" at -307.15,239.09 h10
  text "62" at 209.6,-303.15 h10
  text "93" at 295.15,191.85 h10
  text "37" at -184.1,-303.15 h10
  text "3" at -307.15,207.6 h10
  text "9" at -307.15,113.11 h10
  text "70" at 295.15,-170.35 h10
  text "122" at -156.61,303.15 h10
  text "113" at -14.87,303.15 h10
  text "101" at 174.1,303.15 h10
  text "7" at -307.15,144.61 h10
  text "8" at -307.15,128.86 h10
  text "90" at 295.15,144.61 h10
  text "28" at -311.15,-186.1 h10
  text "16" at -311.15,2.87 h10
  text "26" at -311.15,-154.61 h10
  text "52" at 52.12,-303.15 h10
  text "51" at 36.37,-303.15 h10
  text "69" at 295.15,-186.1 h10
  text "79" at 295.15,-28.62 h10
  text "39" at -152.61,-303.15 h10
  text "47" at -26.62,-303.15 h10
  text "67" at 295.15,-217.6 h10
  text "65" at 295.15,-249.09 h10
  text "54" at 83.61,-303.15 h10
  text "53" at 67.87,-303.15 h10
  text "57" at 130.86,-303.15 h10
  text "56" at 115.11,-303.15 h10
  text "102" at 158.35,303.15 h10
  text "27" at -311.15,-170.35 h10
  text "11" at -311.15,81.61 h10
  text "6" at -307.15,160.35 h10
  text "5" at -307.15,176.1 h10
  text "106" at 95.36,303.15 h10
  text "105" at 111.11,303.15 h10
  text "104" at 126.86,303.15 h10
  text "103" at 142.61,303.15 h10
  text "119" at -109.36,303.15 h10
  text "118" at -93.61,303.15 h10
  text "112" at 0.87,303.15 h10
  text "111" at 16.62,303.15 h10
  text "110" at 32.37,303.15 h10
  text "109" at 48.12,303.15 h10
  text "108" at 63.87,303.15 h10
  text "107" at 79.61,303.15 h10
  text "71" at 295.15,-154.61 h10
  text "72" at 295.15,-138.86 h10
  text "73" at 295.15,-123.11 h10
  text "74" at 295.15,-107.36 h10
  text "75" at 295.15,-91.61 h10
  text "76" at 295.15,-75.87 h10
  text "77" at 295.15,-60.12 h10
  text "78" at 295.15,-44.37 h10
  text "86" at 295.15,81.61 h10
  text "85" at 295.15,65.87 h10
  text "84" at 295.15,50.12 h10
  text "83" at 295.15,34.37 h10
  text "82" at 295.15,18.62 h10
  text "81" at 295.15,2.87 h10
  text "21" at -311.15,-75.87 h10
  text "20" at -311.15,-60.12 h10
  text "19" at -311.15,-44.37 h10
  text "18" at -311.15,-28.62 h10
  text "117" at -77.87,303.15 h10
  text "116" at -62.12,303.15 h10
  text "32" at -311.15,-249.09 h10
  text "31" at -311.15,-233.35 h10
  text "30" at -311.15,-217.6 h10
  text "29" at -311.15,-201.85 h10
  text "50" at 20.62,-303.15 h10
  text "49" at 4.87,-303.15 h10
  text "46" at -42.37,-303.15 h10
  text "45" at -58.12,-303.15 h10
  text "44" at -73.87,-303.15 h10
  text "124" at -188.1,303.15 h10
  text "123" at -172.35,303.15 h10
  text "12" at -311.15,65.87 h10
  text "13" at -311.15,50.12 h10
  text "14" at -311.15,34.37 h10
  text "15" at -311.15,18.62 h10
  text "128" at -251.09,303.15 h10
  text "127" at -235.35,303.15 h10
  text "126" at -219.6,303.15 h10
  text "125" at -203.85,303.15 h10
  text "2" at -307.15,223.35 h10
  text "22" at -311.15,-91.61 h10
  text "23" at -311.15,-107.36 h10
  text "24" at -311.15,-123.11 h10
  text "25" at -311.15,-138.86 h10
  text "120" at -125.11,303.15 h10
  text "121" at -140.86,303.15 h10
  text "92" at 295.15,176.1 h10
  text "91" at 295.15,160.35 h10
  text "41" at -121.11,-303.15 h10
  text "34" at -231.35,-303.15 h10
  text "33" at -247.09,-303.15 h10
Top Assembly:
  lines w6: -290,235 -290,255 -280,245 -290,235 ; -275,-275 275,-275 275,275 -275,275 -275,-275
3D body: height 150, standoff 0, extent -342.5,-342.5 342.5,342.5

## TSSOP8_25-59_125X180_1-2 [mil] "TSSOP8_25-59_125X180_1-2"
pads (8):
  rect 59x18 smd: 1(-114.17,38.39) 2(-114.17,12.8) 3(-114.17,-12.8) 4(-114.17,-38.39) 5(114.17,-38.39) 6(114.17,-12.8) 7(114.17,12.8) 8(114.17,38.39)
Top Overlay:
  lines w6: -70,50 70,50 ; -165.02,22.5 -165.02,52.5 -150.02,37.5 -165.02,22.5 ; -70,-70 -70,70 70,70 70,-70 -70,-70
  text "4" at -170.02,-47.5 h20
  text "5" at 104.98,-77.5 h20
  text "8" at 109.98,57.5 h20
Top Courtyard:
  dashed: -149.67,-67 -149.67,67 149.67,67 149.67,-67
Top 3D Body:
  region: -153.5,-71 -153.5,71 153.5,71 153.5,-71
Mechanical 10:
  lines w6: -90,40 90,40 ; -107.5,25 -107.5,55 -92.5,40 -107.5,25 ; -90,-60 90,-60 90,60 -90,60 -90,-60
  text "U56" at -36.52,-27.5 h30
Mechanical 11:
  lines w6: -90,40 90,40 ; -107.5,25 -107.5,55 -92.5,40 -107.5,25 ; -90,-60 90,-60 90,60 -90,60 -90,-60
  text "U56" at -36.52,-27.5 h30
Mechanical 12:
  lines w6: -90,40 90,40 ; -107.5,25 -107.5,55 -92.5,40 -107.5,25 ; -90,-60 90,-60 90,60 -90,60 -90,-60
  text "U56" at -36.52,-27.5 h30
Mechanical 13:
  lines w6: -90,40 90,40 ; -107.5,25 -107.5,55 -92.5,40 -107.5,25 ; -90,-60 90,-60 90,60 -90,60 -90,-60
  text "U56" at -36.52,-27.5 h30
Mechanical 14:
  lines w6: -90,40 90,40 ; -107.5,25 -107.5,55 -92.5,40 -107.5,25 ; -90,-60 90,-60 90,60 -90,60 -90,-60
  text "U56" at -36.52,-27.5 h30
Mechanical47:
  text "8" at 110.17,38.39 h10
  text "3" at -118.17,-12.8 h10
  text "7" at 110.17,12.8 h10
  text "2" at -118.17,12.8 h10
  text "4" at -118.17,-38.39 h10
  text "5" at 110.17,-38.39 h10
  text "6" at 110.17,-12.8 h10
  text "1" at -118.17,38.39 h10
Top Assembly:
  lines w6: -90,40 90,40 ; -107.5,25 -107.5,55 -92.5,40 -107.5,25 ; -90,-60 90,-60 90,60 -90,60 -90,-60
  text ".Designator" at -36.52,-27.5 h30
3D body: height 150, standoff 0, extent -153.5,-71 153.5,71

## TSSOP16_25-59_205X180 [mil] "TSSOP16_25-59_205X180"
pads (16):
  rect 63x14 smd: 1(-110.24,89.57) 2(-110.24,63.98) 3(-110.24,38.39) 4(-110.24,12.8) 5(-110.24,-12.8) 6(-110.24,-38.39) 7(-110.24,-63.98) 8(-110.24,-89.57) 9(110.24,-89.57) 10(110.24,-63.98) 11(110.24,-38.39) 12(110.24,-12.8) 13(110.24,12.8) 14(110.24,38.39) 15(110.24,63.98) 16(110.24,89.57)
Top Overlay:
  lines w6: -70,90 70,90 ; -129.87,117.24 -109.87,117.24 -119.87,107.24 -129.87,117.24 ; -70,-110 70,-110 70,110 -70,110 -70,-110
  text ".Designator" at 39.13,157.24 h30
  text "8" at -129.87,-125.26 h20
  text "9" at 155.13,-95.26 h20
  text "16" at 120.13,106.24 h20
Top Courtyard:
  dashed: -148.74,-107 -148.74,107 148.74,107 148.74,-107
Top 3D Body:
  region: -170,-120 170,-120 170,120 -170,120
Mechanical 10:
  lines w6: -90,80 90,80 ; -105,80 -105,100 -95,90 -105,80 ; -90,-100 90,-100 90,100 -90,100 -90,-100
  text "U26" at 15.13,-48.76 h30
Mechanical 11:
  lines w6: -90,80 90,80 ; -105,80 -105,100 -95,90 -105,80 ; -90,-100 90,-100 90,100 -90,100 -90,-100
  text "U26" at 15.13,-48.76 h30
Mechanical 12:
  lines w6: -90,80 90,80 ; -105,80 -105,100 -95,90 -105,80 ; -90,-100 90,-100 90,100 -90,100 -90,-100
  text "U26" at 15.13,-48.76 h30
Mechanical 13:
  lines w6: -90,80 90,80 ; -105,80 -105,100 -95,90 -105,80 ; -90,-100 90,-100 90,100 -90,100 -90,-100
  text "U26" at 15.13,-48.76 h30
Mechanical 14:
  lines w6: -90,80 90,80 ; -105,80 -105,100 -95,90 -105,80 ; -90,-100 90,-100 90,100 -90,100 -90,-100
  text "U26" at 15.13,-48.76 h30
Mechanical47:
  text "15" at 110.24,55.98 h10
  text "16" at 110.24,81.57 h10
  text "9" at 110.24,-93.57 h10
  text "1" at -110.24,85.57 h10
  text "5" at -110.24,-16.8 h10
  text "7" at -110.24,-67.98 h10
  text "12" at 110.24,-20.8 h10
  text "4" at -110.24,8.8 h10
  text "14" at 110.24,30.39 h10
  text "2" at -110.24,59.98 h10
  text "8" at -110.24,-93.57 h10
  text "11" at 110.24,-46.39 h10
  text "3" at -110.24,34.39 h10
  text "13" at 110.24,4.8 h10
  text "10" at 110.24,-71.98 h10
  text "6" at -110.24,-42.39 h10
Top Assembly:
  lines w6: -90,80 90,80 ; -105,80 -105,100 -95,90 -105,80 ; -90,-100 90,-100 90,100 -90,100 -90,-100
3D body: height 150, standoff 0, extent -170,-120 170,120